# Altium footprint library 467650001.PcbLib: 1 footprints
Each footprint in its own frame and in the unit in brackets; x right, y up, seen from the top. Pads: shape width x height; smd on the part's side, far side on the other; paste and mask are expansions set on the pad; w line width, h text height; cw(c..) or ccw(c..) is an arc to the next point about the centre after c.
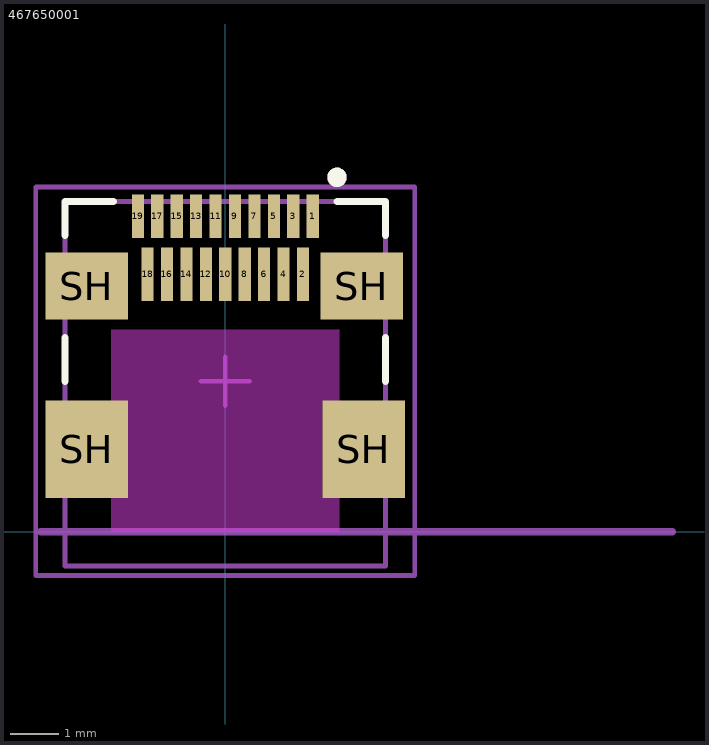
[diagram p0: the footprint, top view; thin cyan lines are the x and y axes]

## 467650001 [mm]
pads (23):
  rect 0.25x0.9 smd paste+0 mask+0.03: 1(1.8,6.5) 3(1.4,6.5) 5(1,6.5) 7(0.6,6.5) 9(0.2,6.5) 11(-0.2,6.5) 13(-0.6,6.5) 15(-1,6.5) 17(-1.4,6.5) 19(-1.8,6.5)
  rect 0.25x1.1 smd paste+0 mask+0.03: 2(1.6,5.3) 4(1.2,5.3) 6(0.8,5.3) 8(0.4,5.3) 10(0,5.3) 12(-0.4,5.3) 14(-0.8,5.3) 16(-1.2,5.3) 18(-1.6,5.3)
  rect 1.7x2 smd mask+0.05: SH(-2.85,1.7) SH(2.85,1.7)
  rect 1.7x1.38 smd mask+0.05: SH(-2.85,5.06) SH(2.81,5.06)
Top Overlay:
  circle w0.2: c2.3,7.3 r0.1
  lines w0.15: -3.3,3.1 -3.3,4 ; -3.3,6.1 -3.3,6.8 -2.3,6.8 ; 2.3,6.8 3.3,6.8 3.3,6.1 ; 3.3,3.1 3.3,4
Keep-Out Layer:
  region: 2.35,2.7 2,2.7 2,0.7 2.35,0.7 2.35,0 -2.35,0 -2.35,0.7 -2,0.7 -2,2.7 -2.35,2.7 -2.35,4.16 2.35,4.16
Top Assembly:
  circle w0.2: c2.3,7.3 r0.1
  lines w0.1: -3.3,-0.7 3.3,-0.7 3.3,6.8 -3.3,6.8 -3.3,-0.7
Top Courtyard:
  lines w0.1: -0.5,3.1 0,3.1 ; 0,2.6 0,3.1 ; 0,3.6 0,3.1 ; 0.5,3.1 0,3.1 ; -3.9,-0.9 3.9,-0.9 3.9,7.1 -3.9,7.1 -3.9,-0.9
Mechanical 13:
  lines w0.15: -3.8,0 9.2,0
  text "PCB EDGE" at 4.3,0.3 h0.6
3D body "467650001.stp": height 2.92, standoff -0.05, extent -3.25,-0.7 3.25,6.8